# EAGLE library part L272M (library Fairchild_By_element14_Batch_1)
Dual Power Operational Amplifier
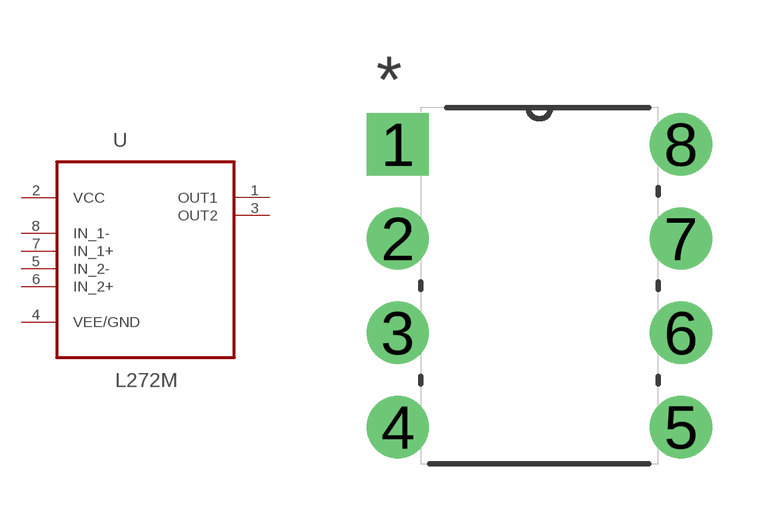
[diagram p202: symbol with the pads of DIP254P762X508-8; footprint DIP254P762X508-8]

Designator prefix U

## L272M (MPN: L272M; OC_FARNELL: 1094205; OC_NEWARK: 58K1804; PACKAGE: PDIP; SUPPLIER: FAIRCHILD SEMICONDUCTOR)  [DIP254P762X508-8]
1  OUT1  out
2  VCC  pwr
3  OUT2  out
4  VEE/GND  pwr
5  IN_2-  in
6  IN_2+  in
7  IN_1+  in
8  IN_1-  in

## Footprint DIP254P762X508-8 (pad centres in mm)
drill 1.118 square: 1 -7.62,7.62
drill 1.118: 2 -7.62,5.08; 3 -7.62,2.54; 4 -7.62,0; 5 0,0; 6 0,2.54; 7 0,5.08; 8 0,7.62